# Altium footprint library SparkFun-Connectors.PCBLIB: 344 footprints (part 12 of 22)
Each footprint in its own frame and in the unit in brackets; x right, y up, seen from the top. Pads: shape width x height; smd on the part's side, far side on the other; paste and mask are expansions set on the pad; w line width, h text height; cw(c..) or ccw(c..) is an arc to the next point about the centre after c.
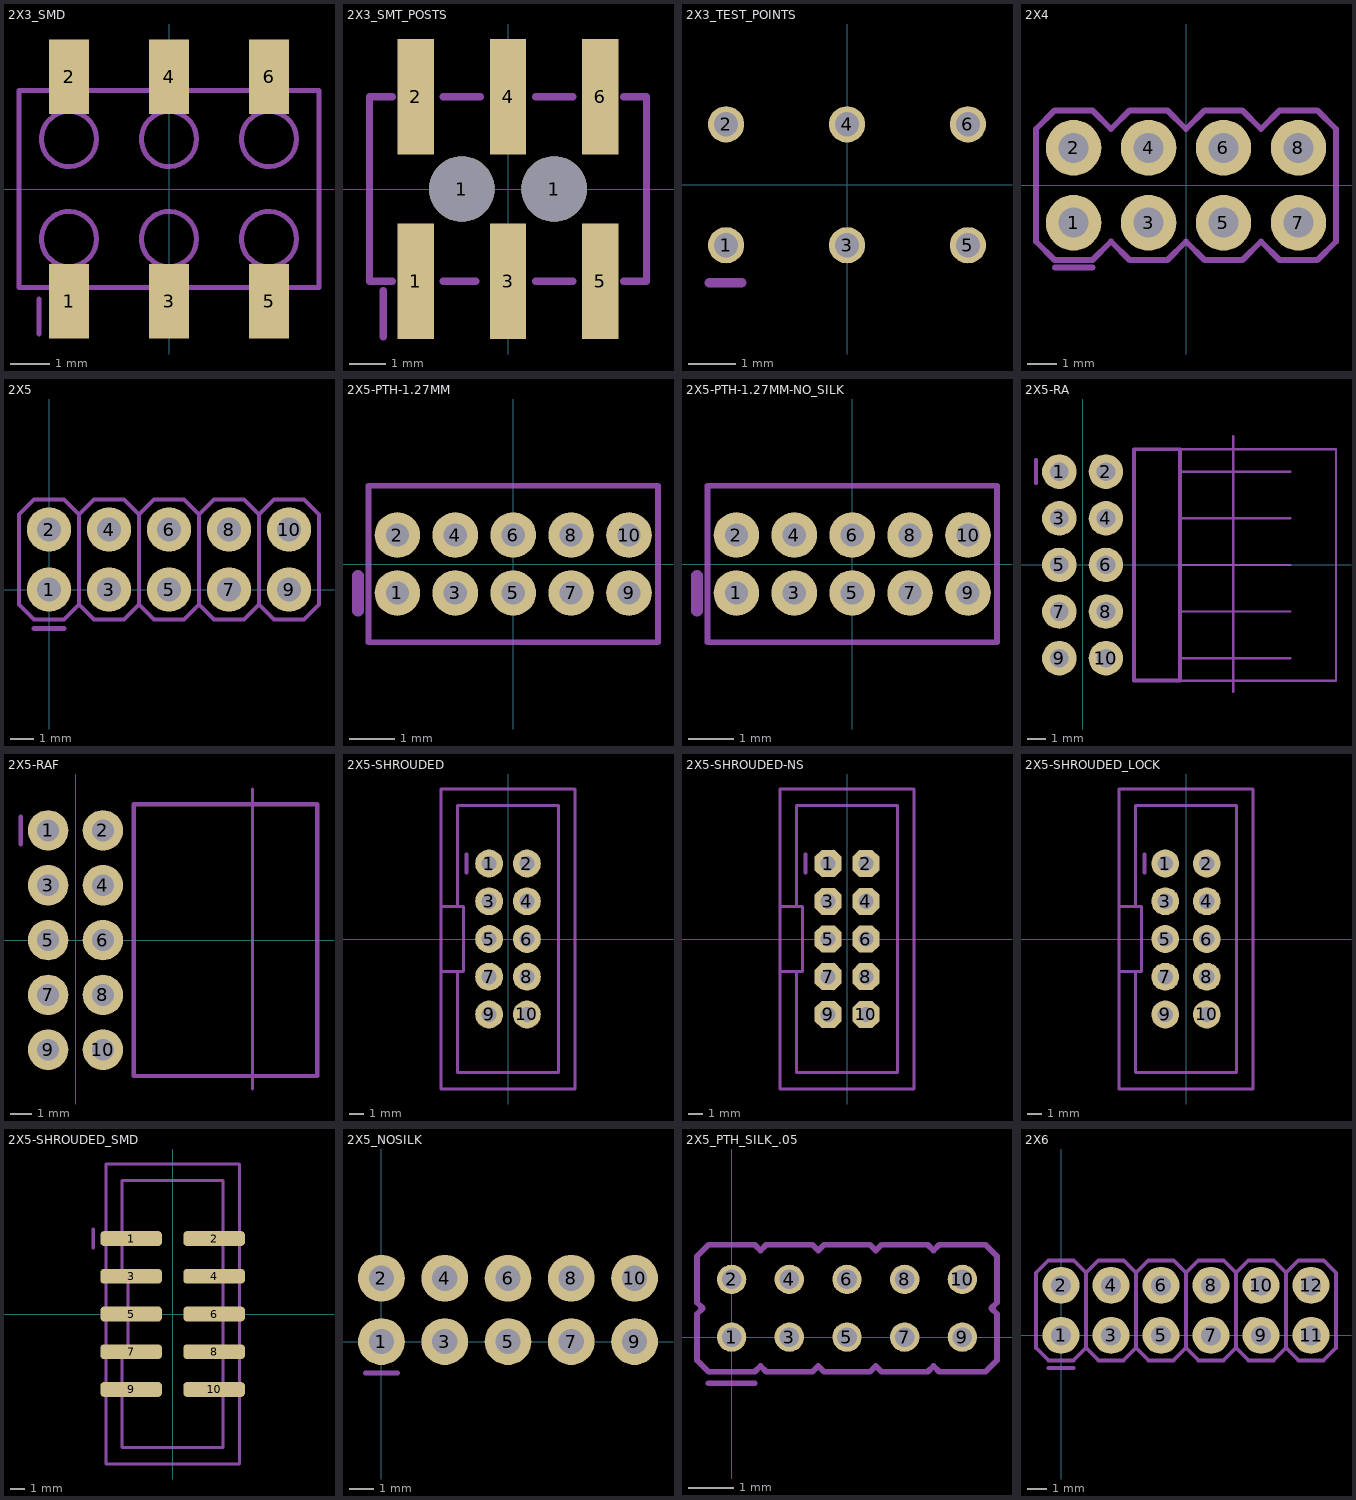
[diagram p11: the footprints below, top view; thin cyan lines are the x and y axes]

## 2X3_SMD [mil]
pads (6):
  rect 40.16x74.8 smd: 1(-100,-112.2) 2(-100,112.2) 3(0,-112.2) 4(0,112.2) 5(100,-112.2) 6(100,112.2)
Mechanical 8:
  circle w5: c0,50 r27.56
  circle w5: c-100,50 r27.56
  circle w5: c-100,-50 r27.56
  circle w5: c0,-50 r27.56
  circle w5: c100,-50 r27.56
  circle w5: c100,50 r27.56
  region: -11.81,100.39 -11.81,131.89 11.81,131.89 11.81,100.39
  region: -111.81,100.39 -111.81,131.89 -88.19,131.89 -88.19,100.39
  region: 88.19,100.39 88.19,131.89 111.81,131.89 111.81,100.39
  region: -88.19,-100.39 -88.19,-131.89 -111.81,-131.89 -111.81,-100.39
  region: 11.81,-100.39 11.81,-131.89 -11.81,-131.89 -11.81,-100.39
  region: 111.81,-100.39 111.81,-131.89 88.19,-131.89 88.19,-100.39
  lines w5: -150,-98.43 -150,98.43 150,98.43 150,-98.43 -150,-98.43
Mechanical 22:
  lines w5: -130,-145 -130,-110

## 2X3_SMT_POSTS [mm]
pads (8):
  rect 1x3.17 smd: 1(-2.54,-2.54) 2(-2.54,2.54) 3(0,-2.54) 4(0,2.54) 5(2.54,-2.54) 6(2.54,2.54)
  round 1.8 hole 1.8 unplated: 1(-1.27,0) 1(1.27,0)
Mechanical 22:
  lines w0.203: -3.429,-4.064 -3.429,-2.794 ; -3.175,-2.54 -3.81,-2.54 -3.81,2.54 -3.175,2.54 ; -1.778,-2.54 -0.889,-2.54 ; -1.778,2.54 -0.762,2.54 ; 0.762,-2.54 1.778,-2.54 ; 0.762,2.54 1.778,2.54 ; 3.175,-2.54 3.81,-2.54 3.81,2.54 3.175,2.54

## 2X3_TEST_POINTS [mil]
pads (6):
  round 30 / inner round 60 / far side round 30 hole 20: 1(-100,-50) 2(-100,50) 3(0,-50) 4(0,50) 5(100,-50) 6(100,50)
Top Solder:
  circle w0: c-100,50 r24.04
  circle w0: c0,50 r24.04
  circle w0: c100,50 r24.04
  circle w0: c-100,-50 r24.04
  circle w0: c0,-50 r24.04
  circle w0: c100,-50 r24.04
Mechanical 22:
  lines w8: -114,-81 -87,-81

## 2X4 [mil]
pads (8):
  round 74 / inner round 60 / far side round 74 hole 40: 1(-150,-50) 2(-150,50) 3(-50,-50) 4(-50,50) 5(50,-50) 6(50,50) 7(150,-50) 8(150,50)
Mechanical 8:
  region: -160,-60 -160,-40 -140,-40 -140,-60
  region: -160,40 -160,60 -140,60 -140,40
  region: -60,40 -60,60 -40,60 -40,40
  region: -60,-60 -60,-40 -40,-40 -40,-60
  region: 40,40 40,60 60,60 60,40
  region: 40,-60 40,-40 60,-40 60,-60
  region: 140,40 140,60 160,60 160,40
  region: 140,-60 140,-40 160,-40 160,-60
Mechanical 22:
  lines w8: -175,-110 -125,-110 ; -200,-75 -175,-100 ; -200,-75 -200,75 ; -200,-75 -175,-100 ; -200,-75 -200,75 ; -200,75 -175,100 ; -200,75 -175,100 ; -175,-100 -125,-100 -100,-75 -75,-100 -25,-100 0,-75 25,-100 75,-100 100,-75 125,-100 175,-100 200,-75 200,75 175,100 125,100 100,75 75,100 25,100 0,75 -25,100 -75,100 -100,75 -125,100 -175,100
Mechanical 23:
  lines w8: -175,-110 -125,-110

## 2X5 [mil]
pads (10):
  round 74 / inner round 60 / far side round 74 hole 40: 1(0,0) 2(0,100) 3(100,0) 4(100,100) 5(200,0) 6(200,100) 7(300,0) 8(300,100) 9(400,0) 10(400,100)
Mechanical 8:
  region: 10,-10 -10,-10 -10,10 10,10
  region: 10,90 -10,90 -10,110 10,110
  region: 110,90 90,90 90,110 110,110
  region: 110,-10 90,-10 90,10 110,10
  region: 210,90 190,90 190,110 210,110
  region: 210,-10 190,-10 190,10 210,10
  region: 410,90 390,90 390,110 410,110
  region: 410,-10 390,-10 390,10 410,10
  region: 310,-10 290,-10 290,10 310,10
  region: 310,90 290,90 290,110 310,110
Mechanical 22:
  lines w6: 50,-25 25,-50 -25,-50 -50,-25 -50,125 -25,150 25,150 50,125 ; 50,-25 75,-50 125,-50 150,-25 ; 50,-25 50,125 ; 50,125 75,150 125,150 150,125 ; 150,-25 175,-50 225,-50 250,-25 ; 150,-25 150,125 ; 150,125 175,150 225,150 250,125 ; 250,-25 275,-50 325,-50 350,-25 ; 250,-25 250,125 ; 250,125 275,150 325,150 350,125 ; 350,-25 350,125 ; 350,-25 375,-50 425,-50 450,-25 450,125 425,150 375,150 350,125
  lines w8: -25,-65 25,-65
Mechanical 23:
  lines w8: -25,-65 25,-65

## 2X5-PTH-1.27MM [mm]
pads (10):
  round 1 / inner round 1.524 / far side round 1 hole 0.508: 1(-2.54,-0.635) 2(-2.54,0.635) 3(-1.27,-0.635) 4(-1.27,0.635) 5(0,-0.635) 6(0,0.635) 7(1.27,-0.635) 8(1.27,0.635) 9(2.54,-0.635) 10(2.54,0.635)
Mechanical 22:
  lines w0.127: -3.175,-1.715 -3.175,1.715 3.175,1.715 3.175,-1.715 -3.175,-1.715
  lines w0.254: -3.403,-1.021 -3.403,-0.259

## 2X5-PTH-1.27MM-NO_SILK [mm]
pads (10):
  round 1 / inner round 1.524 / far side round 1 hole 0.508: 1(-2.54,-0.635) 2(-2.54,0.635) 3(-1.27,-0.635) 4(-1.27,0.635) 5(0,-0.635) 6(0,0.635) 7(1.27,-0.635) 8(1.27,0.635) 9(2.54,-0.635) 10(2.54,0.635)
Mechanical 8:
  lines w0.127: -3.175,-1.715 -3.175,1.715 3.175,1.715 3.175,-1.715 -3.175,-1.715
Mechanical 22:
  lines w0.254: -3.403,-1.021 -3.403,-0.259

## 2X5-RA [mil]
pads (10):
  round 74 / inner round 60 / far side round 74 hole 40: 1(-50,200) 2(50,200) 3(-50,100) 4(50,100) 5(-50,0) 6(50,0) 7(-50,-100) 8(50,-100) 9(-50,-200) 10(50,-200)
Mechanical 8:
  region: -60,210 -40,210 -40,190 -60,190
  region: 40,210 60,210 60,190 40,190
  region: 40,110 60,110 60,90 40,90
  region: -60,110 -40,110 -40,90 -60,90
  region: 40,10 60,10 60,-10 40,-10
  region: -60,10 -40,10 -40,-10 -60,-10
  region: 40,-90 60,-90 60,-110 40,-110
  region: -60,-90 -40,-90 -40,-110 -60,-110
  region: 40,-190 60,-190 60,-210 40,-210
  region: -60,-190 -40,-190 -40,-210 -60,-210
  region: -60,-90 -40,-90 -40,-110 -60,-110
  region: 40,-90 60,-90 60,-110 40,-110
  lines w5: 208.66,-248.03 543.31,-248.03 543.31,248.03 208.66,248.03 ; 208.66,-200 444.88,-200 ; 208.66,-100 444.88,-100 ; 208.66,0 444.88,0 ; 208.66,100 444.88,100 ; 208.66,200 444.88,200 ; 322.83,-271.65 322.83,275.59
Mechanical 22:
  lines w8: -100,175 -100,225 ; 110.24,-248.03 208.66,-248.03 208.66,248.03 110.24,248.03 110.24,-248.03
Mechanical 23:
  lines w8: -100,175 -100,225

## 2X5-RAF [mil]
pads (10):
  round 74 / inner round 60 / far side round 74 hole 40: 1(-50,200) 2(50,200) 3(-50,100) 4(50,100) 5(-50,0) 6(50,0) 7(-50,-100) 8(50,-100) 9(-50,-200) 10(50,-200)
Mechanical 8:
  region: -60,210 -40,210 -40,190 -60,190
  region: 40,210 60,210 60,190 40,190
  region: 40,110 60,110 60,90 40,90
  region: -60,110 -40,110 -40,90 -60,90
  region: 40,10 60,10 60,-10 40,-10
  region: -60,10 -40,10 -40,-10 -60,-10
  region: 40,-90 60,-90 60,-110 40,-110
  region: -60,-90 -40,-90 -40,-110 -60,-110
  region: 40,-190 60,-190 60,-210 40,-210
  region: -60,-190 -40,-190 -40,-210 -60,-210
  region: -60,-90 -40,-90 -40,-110 -60,-110
  region: 40,-90 60,-90 60,-110 40,-110
  lines w5: 322.83,-271.65 322.83,275.59
Mechanical 22:
  lines w8: -100,175 -100,225 ; 106.3,-248.03 440.94,-248.03 440.94,248.03 106.3,248.03 106.3,-248.03
Mechanical 23:
  lines w8: -100,175 -100,225

## 2X5-SHROUDED [mil]
pads (10):
  round 74 / inner round 60 / far side round 74 hole 40: 1(-50,200) 2(50,200) 3(-50,100) 4(50,100) 5(-50,0) 6(50,0) 7(-50,-100) 8(50,-100) 9(-50,-200) 10(50,-200)
Mechanical 8:
  region: -60,190 -60,210 -40,210 -40,190
  region: 40,190 40,210 60,210 60,190
  region: 40,90 40,110 60,110 60,90
  region: -60,90 -60,110 -40,110 -40,90
  region: 40,-10 40,10 60,10 60,-10
  region: -60,-10 -60,10 -40,10 -40,-10
  region: 40,-110 40,-90 60,-90 60,-110
  region: -60,-110 -60,-90 -40,-90 -40,-110
  region: 40,-210 40,-190 60,-190 60,-210
  region: -60,-210 -60,-190 -40,-190 -40,-210
  region: -60,-110 -60,-90 -40,-90 -40,-110
  region: 40,-110 40,-90 60,-90 60,-110
  lines w8: -133.86,-86.61 -133.86,-354.33 133.86,-354.33 133.86,354.33 -133.86,354.33 -133.86,86.61
Mechanical 22:
  lines w8: -109.25,175 -109.25,225 ; 173.23,397.64 -177.17,397.64 -177.17,86.61 ; 177.17,397.64 177.17,-397.64 -177.17,-397.64 -177.17,-86.61 ; -177.17,-86.61 -177.17,86.61 ; -177.17,-86.61 -118.11,-86.61 -118.11,86.61 -177.17,86.61
Mechanical 23:
  lines w8: -110.75,175 -110.75,225

## 2X5-SHROUDED-NS [mil]
pads (10):
  oct 71.65x71.65 / inner oct 60x60 / far side oct 71.65x71.65 hole 40: 1(-50,200) 2(50,200) 3(-50,100) 4(50,100) 5(-50,0) 6(50,0) 7(-50,-100) 8(50,-100) 9(-50,-200) 10(50,-200)
Mechanical 8:
  region: -60,190 -60,210 -40,210 -40,190
  region: 40,190 40,210 60,210 60,190
  region: 40,90 40,110 60,110 60,90
  region: -60,90 -60,110 -40,110 -40,90
  region: 40,-10 40,10 60,10 60,-10
  region: -60,-10 -60,10 -40,10 -40,-10
  region: 40,-110 40,-90 60,-90 60,-110
  region: -60,-110 -60,-90 -40,-90 -40,-110
  region: 40,-210 40,-190 60,-190 60,-210
  region: -60,-210 -60,-190 -40,-190 -40,-210
  region: -60,-110 -60,-90 -40,-90 -40,-110
  region: 40,-110 40,-90 60,-90 60,-110
  lines w8: -133.86,-86.61 -133.86,-354.33 133.86,-354.33 133.86,354.33 -133.86,354.33 -133.86,86.61 ; 173.23,397.64 -177.17,397.64 -177.17,86.61 ; 177.17,397.64 177.17,-397.64 -177.17,-397.64 -177.17,-86.61 ; -177.17,-86.61 -177.17,86.61 ; -177.17,-86.61 -118.11,-86.61 -118.11,86.61 -177.17,86.61
Mechanical 22:
  lines w8: -109.25,175 -109.25,225
Mechanical 23:
  lines w8: -110.75,175 -110.75,225

## 2X5-SHROUDED_LOCK [mil]
pads (10):
  round 74 / inner round 60 / far side round 74 hole 40: 1(-55,200) 2(55,200) 3(-55,100) 4(55,100) 5(-55,0) 6(55,0) 7(-55,-100) 8(55,-100) 9(-55,-200) 10(55,-200)
Mechanical 8:
  region: -60,210 -40,210 -40,190 -60,190
  region: 40,210 60,210 60,190 40,190
  region: 40,110 60,110 60,90 40,90
  region: -60,110 -40,110 -40,90 -60,90
  region: 40,10 60,10 60,-10 40,-10
  region: -60,10 -40,10 -40,-10 -60,-10
  region: 40,-90 60,-90 60,-110 40,-110
  region: -60,-90 -40,-90 -40,-110 -60,-110
  region: 40,-190 60,-190 60,-210 40,-210
  region: -60,-190 -40,-190 -40,-210 -60,-210
  region: -60,-90 -40,-90 -40,-110 -60,-110
  region: 40,-90 60,-90 60,-110 40,-110
  lines w8: -133.86,-86.61 -133.86,-354.33 133.86,-354.33 133.86,354.33 -133.86,354.33 -133.86,86.61
Mechanical 22:
  lines w8: -109.25,175 -109.25,225 ; 173.23,397.64 -177.17,397.64 -177.17,86.61 ; 177.17,397.64 177.17,-397.64 -177.17,-397.64 -177.17,-86.61 ; -177.17,-86.61 -177.17,86.61 ; -177.17,-86.61 -118.11,-86.61 -118.11,86.61 -177.17,86.61
Mechanical 23:
  lines w8: -110.75,175 -110.75,225

## 2X5-SHROUDED_SMD [mil]
pads (10):
  rrect50% 163.39x39.37 smd: 1(-110,200) 2(110,200) 3(-110,100) 4(110,100) 5(-110,0) 6(110,0) 7(-110,-100) 8(110,-100) 9(-110,-200) 10(110,-200)
Mechanical 8:
  region: -60,190 -60,210 -40,210 -40,190
  region: 40,190 40,210 60,210 60,190
  region: 40,90 40,110 60,110 60,90
  region: -60,90 -60,110 -40,110 -40,90
  region: 40,-10 40,10 60,10 60,-10
  region: -60,-10 -60,10 -40,10 -40,-10
  region: 40,-110 40,-90 60,-90 60,-110
  region: -60,-110 -60,-90 -40,-90 -40,-110
  region: 40,-210 40,-190 60,-190 60,-210
  region: -60,-210 -60,-190 -40,-190 -40,-210
  region: -60,-110 -60,-90 -40,-90 -40,-110
  region: 40,-110 40,-90 60,-90 60,-110
  lines w8: -133.86,-86.61 -133.86,-354.33 133.86,-354.33 133.86,354.33 -133.86,354.33 -133.86,86.61
Mechanical 22:
  lines w8: -209.25,175 -209.25,225 ; 173.23,397.64 -177.17,397.64 -177.17,86.61 ; 177.17,397.64 177.17,-397.64 -177.17,-397.64 -177.17,-86.61 ; -177.17,-86.61 -177.17,86.61 ; -177.17,-86.61 -118.11,-86.61 -118.11,86.61 -177.17,86.61
Mechanical 23:
  lines w8: -210.75,175 -210.75,225

## 2X5_NOSILK [mil]
pads (10):
  round 74 / inner round 60 / far side round 74 hole 40: 1(0,0) 2(0,100) 3(100,0) 4(100,100) 5(200,0) 6(200,100) 7(300,0) 8(300,100) 9(400,0) 10(400,100)
Mechanical 8:
  region: 10,-10 -10,-10 -10,10 10,10
  region: 10,90 -10,90 -10,110 10,110
  region: 110,90 90,90 90,110 110,110
  region: 110,-10 90,-10 90,10 110,10
  region: 210,-10 190,-10 190,10 210,10
  region: 410,90 390,90 390,110 410,110
  region: 410,-10 390,-10 390,10 410,10
  region: 310,-10 290,-10 290,10 310,10
  region: 310,90 290,90 290,110 310,110
  region: 210,90 190,90 190,110 210,110
  lines w8: -25,-50 25,-50

## 2X5_PTH_SILK_.05 [mil]
pads (10):
  round 25.5 / inner round 60 / far side round 25.5 hole 17: 1(0,0) 2(0,50) 3(50,0) 4(50,50) 5(100,0) 6(100,50) 7(150,0) 8(150,50) 9(200,0) 10(200,50)
Mechanical 22:
  lines w5: -20,-40 20,-40 ; -30,-20 -20,-30 20,-30 25,-25 30,-30 70,-30 75,-25 80,-30 120,-30 125,-25 130,-30 170,-30 175,-25 180,-30 220,-30 230,-20 230,20 225,25 230,30 230,70 220,80 180,80 175,75 170,80 130,80 125,75 120,80 80,80 75,75 70,80 30,80 25,75 20,80 -20,80 -30,70 -30,30 -25,25 -30,20 -30,-20
Mechanical 23:
  lines w5: -20,-40 20,-40

## 2X6 [mil]
pads (12):
  round 74 / inner round 60 / far side round 74 hole 40: 1(0,0) 2(0,100) 3(100,0) 4(100,100) 5(200,0) 6(200,100) 7(300,0) 8(300,100) 9(400,0) 10(400,100) 11(500,0) 12(500,100)
Mechanical 8:
  region: -10,-10 -10,10 10,10 10,-10
  region: -10,90 -10,110 10,110 10,90
  region: 90,90 90,110 110,110 110,90
  region: 90,-10 90,10 110,10 110,-10
  region: 190,90 190,110 210,110 210,90
  region: 190,-10 190,10 210,10 210,-10
  region: 290,90 290,110 310,110 310,90
  region: 390,90 390,110 410,110 410,90
  region: 490,90 490,110 510,110 510,90
  region: 290,-10 290,10 310,10 310,-10
  region: 390,-10 390,10 410,10 410,-10
  region: 490,-10 490,10 510,10 510,-10
Mechanical 22:
  lines w8: -25,-65 25,-65 ; -50,-25 -25,-50 ; -50,-25 -50,125 ; -50,-25 -25,-50 ; -50,-25 -50,125 ; -50,-25 -25,-50 ; -50,-25 -50,125 ; -50,125 -25,150 ; -50,125 -25,150 ; -50,125 -25,150 ; -25,-50 25,-50 50,-25 ; -25,150 25,150 50,125 ; 50,-25 75,-50 125,-50 150,-25 ; 50,-25 50,125 ; 50,125 75,150 125,150 150,125 ; 150,-25 175,-50 225,-50 250,-25 ; 150,-25 150,125 ; 150,125 175,150 225,150 250,125 ; 250,-25 275,-50 325,-50 350,-25 ; 250,-25 250,125 ; 250,125 275,150 325,150 350,125 ; 350,-25 375,-50 425,-50 450,-25 ; 350,-25 350,125 ; 350,125 375,150 425,150 450,125 ; 450,-25 475,-50 525,-50 550,-25 550,125 525,150 475,150 450,125 ; 450,-25 450,125
Mechanical 23:
  lines w8: -25,-65 25,-65